# Altium footprint library SOD523.PcbLib: 1 footprints
Each footprint in its own frame and in the unit in brackets; x right, y up, seen from the top. Pads: shape width x height; smd on the part's side, far side on the other; paste and mask are expansions set on the pad; w line width, h text height; cw(c..) or ccw(c..) is an arc to the next point about the centre after c.
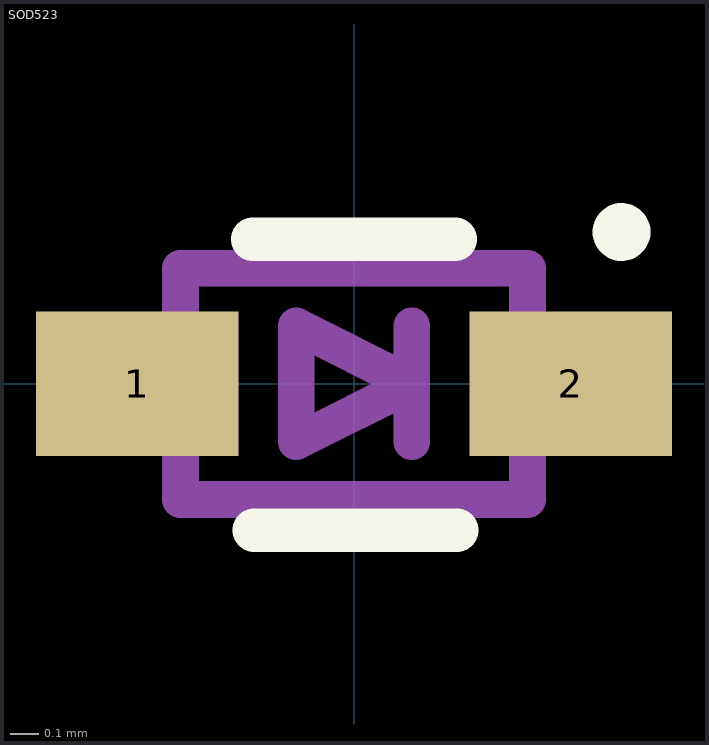
[diagram p0: the footprint, top view; thin cyan lines are the x and y axes]

## SOD523 [mm]
pads (2):
  rect 0.7x0.5 smd: 1(-0.75,0) 2(0.75,0)
Top Overlay:
  circle w0.1: c0.925,0.525 r0.05
  lines w0.15: -0.35,0.5 0.35,0.5 ; -0.344,-0.507 0.356,-0.507
Mechanical 13:
  region: -0.6,-0.15 -0.8,-0.15 -0.8,0.15 -0.6,0.15
  region: 0.8,-0.15 0.601,-0.15 0.601,0.15 0.8,0.15
  lines w0.127: 0.2,-0.2 0.2,0 ; 0.2,0.2 0.2,0 ; 0.2,0 -0.2,-0.2 -0.2,0.2 0.2,0 ; -0.6,-0.4 -0.6,0.4 0.6,0.4 0.6,-0.4 -0.6,-0.4
3D body "1PS79SB40.STEP": height 0.65, standoff 0, extent -0.8,-0.4 0.8,0.4